# EAGLE library part TXS0108 (library rgb_cube)
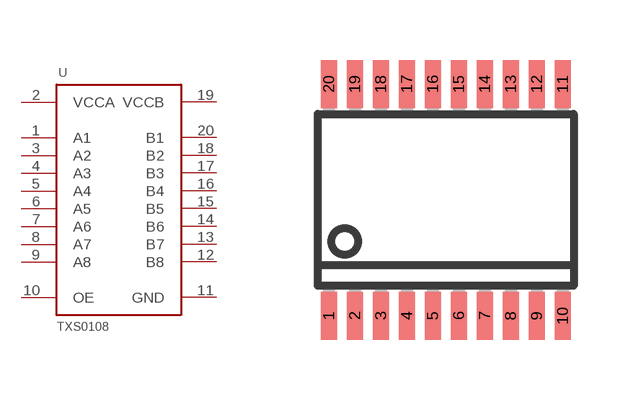
[diagram p63: symbol with the pads of R-PDSO-G20; footprint R-PDSO-G20]

Designator prefix -

## TXS0108  [R-PDSO-G20]
1  A1
2  VCCA  in
3  A2
4  A3
5  A4
6  A5
7  A6
8  A7
9  A8
10  OE  in
11  GND  sup
12  B8
13  B7
14  B6
15  B5
16  B4
17  B3
18  B2
19  VCCB  in
20  B1

## Footprint R-PDSO-G20 (pad centres in mm)
smd 0.4 x 1.2: 1 -2.925,-2.9; 2 -2.275,-2.9; 3 -1.625,-2.9; 4 -0.975,-2.9; 5 -0.325,-2.9; 6 0.325,-2.9; 7 0.975,-2.9; 8 1.625,-2.9; 9 2.275,-2.9; 10 2.925,-2.9; 11 2.925,2.9; 12 2.275,2.9; 13 1.625,2.9; 14 0.975,2.9; 15 0.325,2.9; 16 -0.325,2.9; 17 -0.975,2.9; 18 -1.625,2.9; 19 -2.275,2.9; 20 -2.925,2.9